# Altium footprint library 612020235221.PcbLib: 1 footprints
Each footprint in its own frame and in the unit in brackets; x right, y up, seen from the top. Pads: shape width x height; smd on the part's side, far side on the other; paste and mask are expansions set on the pad; w line width, h text height; cw(c..) or ccw(c..) is an arc to the next point about the centre after c.
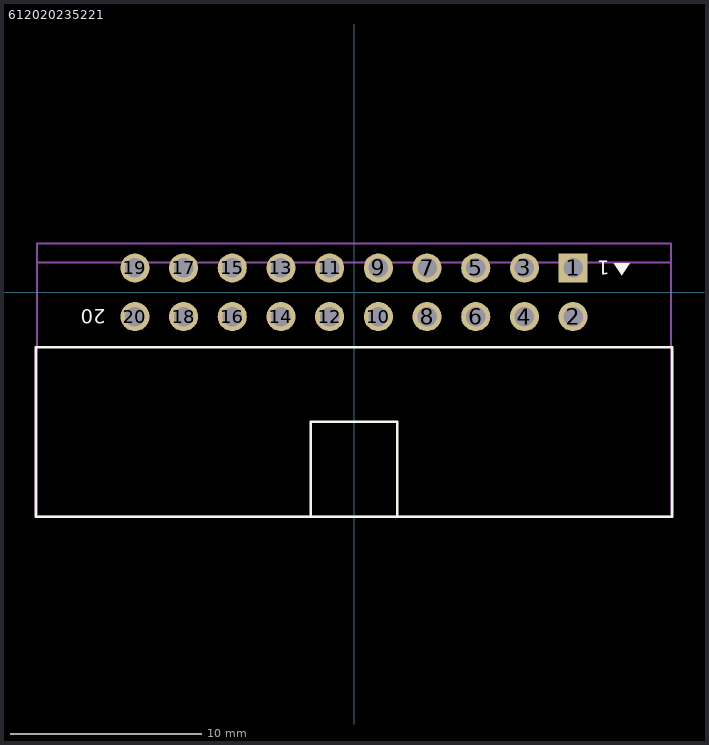
[diagram p0: the footprint, top view; thin cyan lines are the x and y axes]

## 612020235221 [mm] "pitch 2.54mm 2x10 pins, straight, gold plating Male Angled Box Header"
height 9.1
pads (20):
  rect 1.52x1.52 hole 1.02: 1(11.43,1.27)
  round 1.52 hole 1.02: 2(11.43,-1.27) 3(8.89,1.27) 4(8.89,-1.27) 5(6.35,1.27) 6(6.35,-1.27) 7(3.81,1.27) 8(3.81,-1.27) 9(1.27,1.27) 10(1.27,-1.27) 11(-1.27,1.27) 12(-1.27,-1.27) 13(-3.81,1.27) 14(-3.81,-1.27) 15(-6.35,1.27) 16(-6.35,-1.27) 17(-8.89,1.27) 18(-8.89,-1.27) 19(-11.43,1.27) 20(-11.43,-1.27)
Top Overlay:
  region: 13.97,0.889 14.393,1.524 13.547,1.524
  lines w0.127: -2.25,-11.7 -2.25,-6.75 2.25,-6.75 2.25,-11.7 ; -16.6,-11.7 -16.6,-2.87 ; -16.6,-11.7 16.6,-11.7 ; -16.6,-11.7 -16.6,-2.87 ; -16.6,-11.7 16.6,-11.7 ; -16.6,-2.87 16.6,-2.87 ; -16.6,-2.87 16.6,-2.87 ; 16.6,-11.7 16.6,-2.87 ; 16.6,-11.7 16.6,-2.87
  text "1" at 13.335,1.905 h1.27
  text "20" at -12.954,-0.635 h1.27
Mechanical 13:
  lines w0.1: -16.53,-11.7 -16.53,1.56 16.53,1.56 16.53,-11.7 -16.53,-11.7
Mechanical 15:
  lines w0.1: -16.53,-11.7 16.53,-11.7 16.53,2.54 -16.53,2.54 -16.53,-11.7
3D body: height 9.06, standoff -3.14, extent -16.53,-11.7 16.53,1.56